# Altium integrated library Silicon Labs Isolation and Power.IntLib: 421 symbols (part 17 of 19)
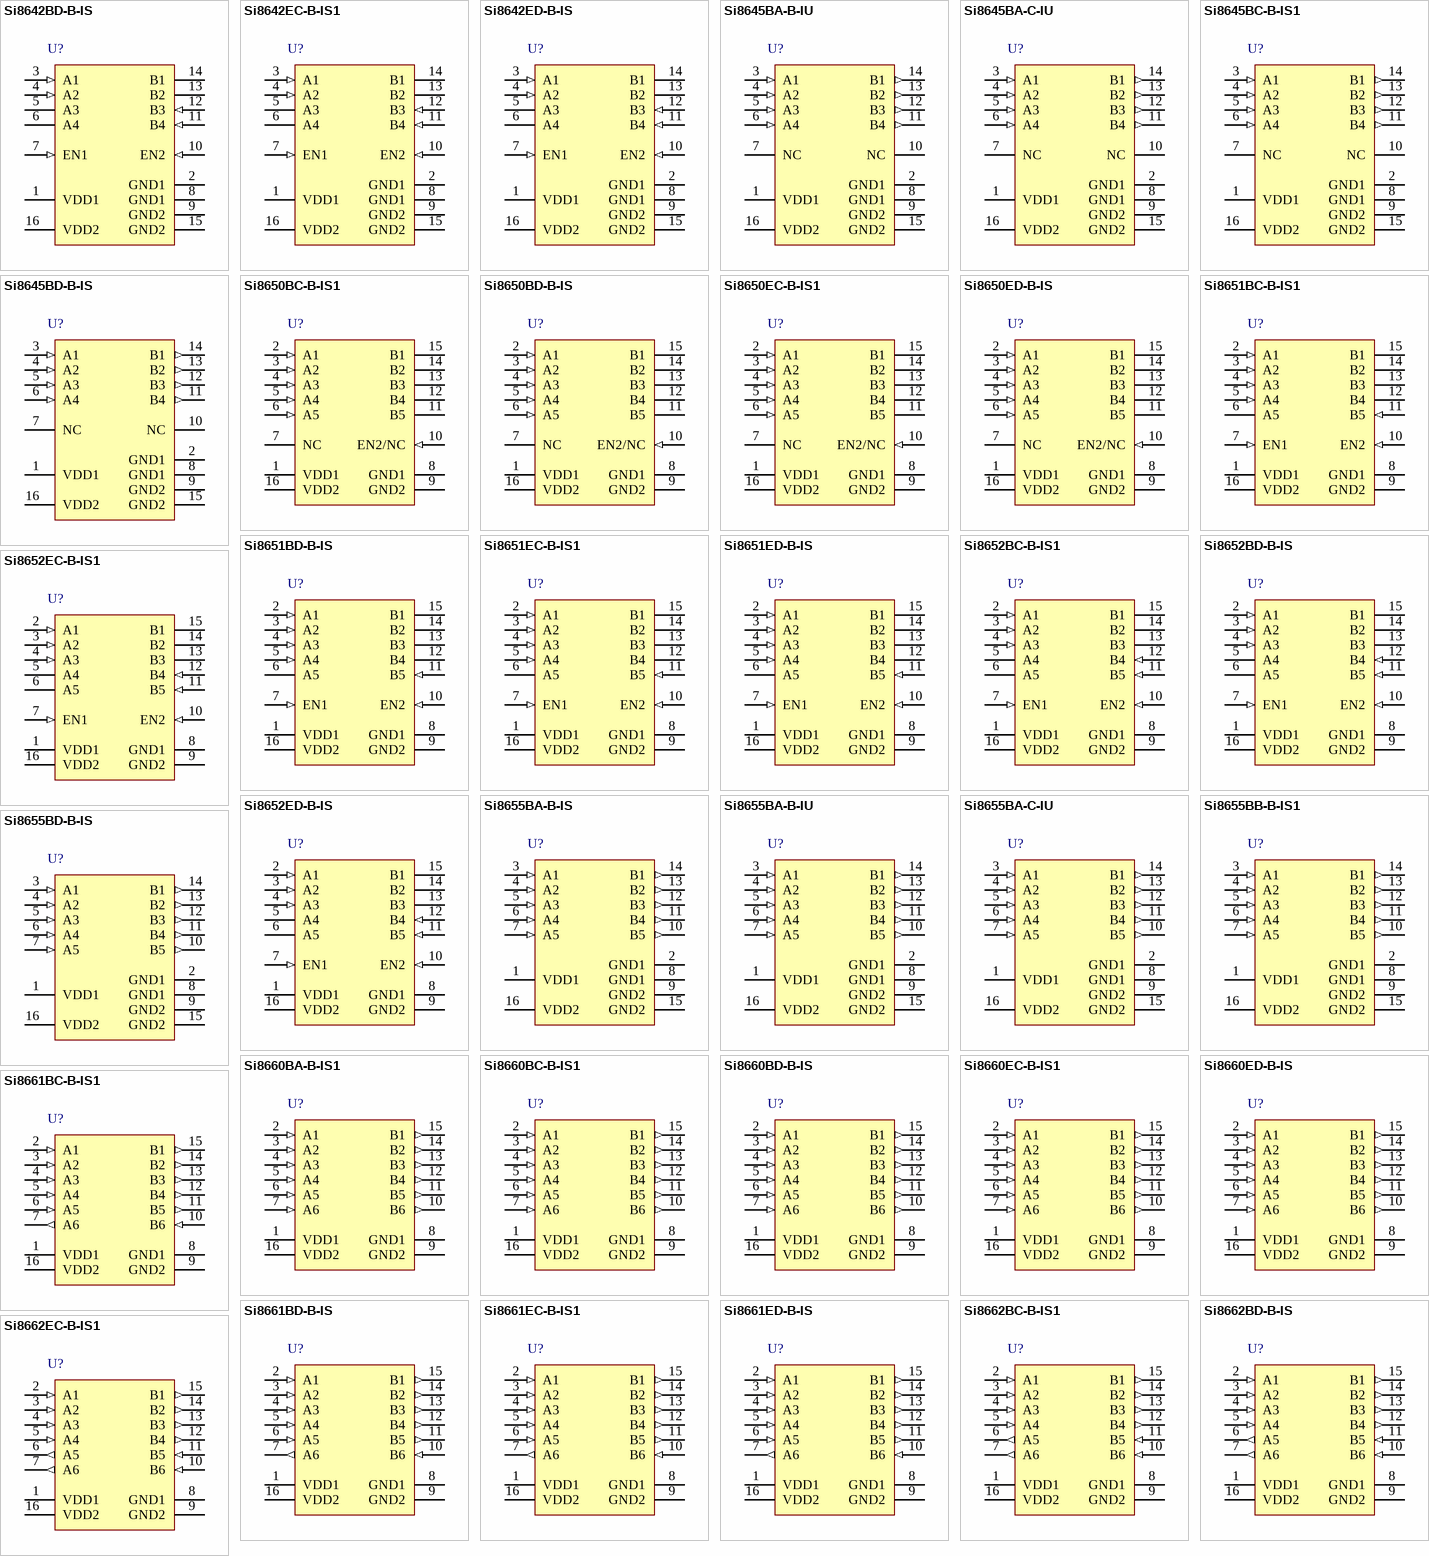
[diagram p30: symbols Si8642BD-B-IS to Si8662EC-B-IS1]

## Si8650BD-B-IS
designator U?
Low Power Five-Channel Digital Isolator, 150 Mbps, 5 kVRMS Isolation Rating, -40 to 125 degC, 16-pin SOIC; Manufacturer: Silicon Labs; PartNumber: Si8650BD-B-IS; 10kV surge: FALSE; Channel Type: Unidirectional; Enable Control: TRUE; Isolation Rating (kV): 5; Maximum Data Rate (Mbps): 150; Maximum Propagation Delay (ns): 13; Sub-Family: Isolators; DatasheetVersion: Rev. 1.6; PackageReference: SOIC-16-WB; PackageDescription: 16-Pin Wide Body Plastic Small Outline, Body 10.3 x 7.5 mm, Pitch 1.27 mm; Supplier 1: Digi-Key; Supplier Part Number 1: 336-2100-5-ND; Supplier 2: Mouser; Supplier Part Number 2: 634-SI8650BD-B-IS; AEC-Q100: FALSE; Mounting Technology: Surface Mount; Code_JEDEC: MS-013; ComponentLink1Description: Manufacturer URL; ComponentLink1URL: http://www.silabs.com/; ComponentLink2Description: Datasheet; ComponentLink2URL: http://www.silabs.com/Support%20Documents/TechnicalDocs/Si865x.pdf; ComponentLink3Description: Package Specification; ComponentLink3URL: https://www.silabs.com/Support%20Documents/TechnicalDocs/Si823x.pdf
footprint SLAB-SOIC-16-WB_N (SOIC, 16-Leads, Body 10.3x7.5mm, Pitch 1.27mm, IPC Medium Density)
footprint SLAB-SOIC-16-WB_L (SOIC, 16-Leads, Body 10.3x7.5mm, Pitch 1.27mm, IPC High Density)
footprint SLAB-SOIC-16-WB_M (SOIC, 16-Leads, Body 10.3x7.5mm, Pitch 1.27mm, IPC Low Density)
pins: 1 VDD1 (power) "Side 1 power supply.", 2 A1 (in) "Side 1 digital input.", 3 A2 (in) "Side 1 digital input.", 4 A3 (in) "Side 1 digital input.", 5 A4 (in) "Side 1 digital input.", 6 A5 (in) "Side 1 digital input.", 7 NC "No connection.", 8 GND1 (power) "Side 1 ground.", 9 GND2 (power) "Side 2 ground.", 10 EN2/NC (in) "Side 2 active high enable.No connection.", 11 B5 (hiz) "Side 2 digital output.", 12 B4 (hiz) "Side 2 digital  output.", 13 B3 (hiz) "Side 2 digital output.", 14 B2 (hiz) "Side 2 digital output.", 15 B1 (hiz) "Side 2 digital output.", 16 VDD2 (power) "Side 2 power supply."

## Si8650EC-B-IS1
designator U?
Low Power Five-Channel Digital Isolator, 150 Mbps, 3.75 kVRMS Isolation Rating, -40 to 125 degC, 16-pin SOIC; Manufacturer: Silicon Labs; PartNumber: Si8650EC-B-IS1; 10kV surge: FALSE; Channel Type: Unidirectional; Enable Control: TRUE; Isolation Rating (kV): 3.75; Maximum Data Rate (Mbps): 150; Maximum Propagation Delay (ns): 13; Sub-Family: Isolators; DatasheetVersion: Rev. 1.6; PackageReference: SOIC-16-NB; PackageDescription: 16-Pin Small-Outline Integrated Circuit, Body 9.9 x 3.9 mm, Pitch 1.27 mm; Supplier 1: Digi-Key; Supplier Part Number 1: 336-2101-5-ND; Supplier 2: Mouser; Supplier Part Number 2: 634-SI8650EC-B-IS1; AEC-Q100: FALSE; Mounting Technology: Surface Mount; Code_JEDEC: MS-012; Code_IPC: J-STD-020; ComponentLink1Description: Manufacturer URL; ComponentLink1URL: http://www.silabs.com/; ComponentLink2Description: Datasheet; ComponentLink2URL: http://www.silabs.com/Support%20Documents/TechnicalDocs/Si865x.pdf; ComponentLink3Description: Package Specification; ComponentLink3URL: http://www.silabs.com/Support%20Documents/TechnicalDocs/si2401.pdf
footprint SLAB-SOIC-16-NB_N (SOIC, 16-Leads, Body 9.9x3.9mm, Pitch 1.27mm, IPC Medium Density)
footprint SLAB-SOIC-16-NB_L (SOIC, 16-Leads, Body 9.9x3.9mm, Pitch 1.27mm, IPC High Density)
footprint SLAB-SOIC-16-NB_M (SOIC, 16-Leads, Body 9.9x3.9mm, Pitch 1.27mm, IPC Low Density)
pins: 1 VDD1 (power) "Side 1 power supply.", 2 A1 (in) "Side 1 digital input.", 3 A2 (in) "Side 1 digital input.", 4 A3 (in) "Side 1 digital input.", 5 A4 (in) "Side 1 digital input.", 6 A5 (in) "Side 1 digital input.", 7 NC "No connection.", 8 GND1 (power) "Side 1 ground.", 9 GND2 (power) "Side 2 ground.", 10 EN2/NC (in) "Side 2 active high enable.No connection.", 11 B5 (hiz) "Side 2 digital output.", 12 B4 (hiz) "Side 2 digital  output.", 13 B3 (hiz) "Side 2 digital output.", 14 B2 (hiz) "Side 2 digital output.", 15 B1 (hiz) "Side 2 digital output.", 16 VDD2 (power) "Side 2 power supply."

## Si8650ED-B-IS
designator U?
Low Power Five-Channel Digital Isolator, 150 Mbps, 5 kVRMS Isolation Rating, -40 to 125 degC, 16-pin SOIC; Manufacturer: Silicon Labs; PartNumber: Si8650ED-B-IS; 10kV surge: FALSE; Channel Type: Unidirectional; Enable Control: TRUE; Isolation Rating (kV): 5; Maximum Data Rate (Mbps): 150; Maximum Propagation Delay (ns): 13; Sub-Family: Isolators; DatasheetVersion: Rev. 1.6; PackageReference: SOIC-16-WB; PackageDescription: 16-Pin Wide Body Plastic Small Outline, Body 10.3 x 7.5 mm, Pitch 1.27 mm; Supplier 1: Digi-Key; Supplier Part Number 1: 336-2102-5-ND; Supplier 2: Mouser; Supplier Part Number 2: 634-SI8650ED-B-IS; AEC-Q100: FALSE; Mounting Technology: Surface Mount; Code_JEDEC: MS-013; ComponentLink1Description: Manufacturer URL; ComponentLink1URL: http://www.silabs.com/; ComponentLink2Description: Datasheet; ComponentLink2URL: http://www.silabs.com/Support%20Documents/TechnicalDocs/Si865x.pdf; ComponentLink3Description: Package Specification; ComponentLink3URL: https://www.silabs.com/Support%20Documents/TechnicalDocs/Si823x.pdf
footprint SLAB-SOIC-16-WB_N (SOIC, 16-Leads, Body 10.3x7.5mm, Pitch 1.27mm, IPC Medium Density)
footprint SLAB-SOIC-16-WB_L (SOIC, 16-Leads, Body 10.3x7.5mm, Pitch 1.27mm, IPC High Density)
footprint SLAB-SOIC-16-WB_M (SOIC, 16-Leads, Body 10.3x7.5mm, Pitch 1.27mm, IPC Low Density)
pins: 1 VDD1 (power) "Side 1 power supply.", 2 A1 (in) "Side 1 digital input.", 3 A2 (in) "Side 1 digital input.", 4 A3 (in) "Side 1 digital input.", 5 A4 (in) "Side 1 digital input.", 6 A5 (in) "Side 1 digital input.", 7 NC "No connection.", 8 GND1 (power) "Side 1 ground.", 9 GND2 (power) "Side 2 ground.", 10 EN2/NC (in) "Side 2 active high enable.No connection.", 11 B5 (hiz) "Side 2 digital output.", 12 B4 (hiz) "Side 2 digital  output.", 13 B3 (hiz) "Side 2 digital output.", 14 B2 (hiz) "Side 2 digital output.", 15 B1 (hiz) "Side 2 digital output.", 16 VDD2 (power) "Side 2 power supply."

## Si8651BC-B-IS1
designator U?
Low Power Five-Channel Digital Isolator, 150 Mbps, 3.75 kVRMS Isolation Rating, -40 to 125 degC, 16-pin SOIC; Manufacturer: Silicon Labs; PartNumber: Si8651BC-B-IS1; 10kV surge: FALSE; Channel Type: Unidirectional; Enable Control: TRUE; Isolation Rating (kV): 3.75; Maximum Data Rate (Mbps): 150; Maximum Propagation Delay (ns): 13; Sub-Family: Isolators; DatasheetVersion: Rev. 1.6; PackageReference: SOIC-16-NB; PackageDescription: 16-Pin Small-Outline Integrated Circuit, Body 9.9 x 3.9 mm, Pitch 1.27 mm; Supplier 1: Digi-Key; Supplier Part Number 1: 336-2103-5-ND; Supplier 2: Mouser; Supplier Part Number 2: 634-SI8651BC-B-IS1; AEC-Q100: FALSE; Mounting Technology: Surface Mount; Code_JEDEC: MS-012; Code_IPC: J-STD-020; ComponentLink1Description: Manufacturer URL; ComponentLink1URL: http://www.silabs.com/; ComponentLink2Description: Datasheet; ComponentLink2URL: http://www.silabs.com/Support%20Documents/TechnicalDocs/Si865x.pdf; ComponentLink3Description: Package Specification; ComponentLink3URL: http://www.silabs.com/Support%20Documents/TechnicalDocs/si2401.pdf
footprint SLAB-SOIC-16-NB_N (SOIC, 16-Leads, Body 9.9x3.9mm, Pitch 1.27mm, IPC Medium Density)
footprint SLAB-SOIC-16-NB_L (SOIC, 16-Leads, Body 9.9x3.9mm, Pitch 1.27mm, IPC High Density)
footprint SLAB-SOIC-16-NB_M (SOIC, 16-Leads, Body 9.9x3.9mm, Pitch 1.27mm, IPC Low Density)
pins: 1 VDD1 (power) "Side 1 power supply.", 2 A1 (in) "Side 1 digital input.", 3 A2 (in) "Side 1 digital input.", 4 A3 (in) "Side 1 digital input.", 5 A4 (in) "Side 1 digital input", 6 A5 (hiz) "Side 1 digital output.", 7 EN1 (in) "Side 1 active high enable.", 8 GND1 (power) "Side 1 ground.", 9 GND2 (power) "Side 2 ground.", 10 EN2 (in) "Side 2 active high enable.", 11 B5 (in) "Side 2 digital input", 12 B4 (hiz) "Side 2 digital output.", 13 B3 (hiz) "Side 2 digital output.", 14 B2 (hiz) "Side 2 digital output.", 15 B1 (hiz) "Side 2 digital output.", 16 VDD2 (power) "Side 2 power supply."

## Si8651BD-B-IS
designator U?
Low Power Five-Channel Digital Isolator, 150 Mbps, 5 kVRMS Isolation Rating, -40 to 125 degC, 16-pin SOIC; Manufacturer: Silicon Labs; PartNumber: Si8651BD-B-IS; 10kV surge: FALSE; Channel Type: Unidirectional; Enable Control: TRUE; Isolation Rating (kV): 5; Maximum Data Rate (Mbps): 150; Maximum Propagation Delay (ns): 13; Sub-Family: Isolators; DatasheetVersion: Rev. 1.6; PackageReference: SOIC-16-WB; PackageDescription: 16-Pin Wide Body Plastic Small Outline, Body 10.3 x 7.5 mm, Pitch 1.27 mm; Supplier 1: Digi-Key; Supplier Part Number 1: 336-2104-5-ND; Supplier 2: Mouser; Supplier Part Number 2: 634-SI8651BD-B-IS; AEC-Q100: FALSE; Mounting Technology: Surface Mount; Code_JEDEC: MS-013; ComponentLink1Description: Manufacturer URL; ComponentLink1URL: http://www.silabs.com/; ComponentLink2Description: Datasheet; ComponentLink2URL: http://www.silabs.com/Support%20Documents/TechnicalDocs/Si865x.pdf; ComponentLink3Description: Package Specification; ComponentLink3URL: https://www.silabs.com/Support%20Documents/TechnicalDocs/Si823x.pdf
footprint SLAB-SOIC-16-WB_N (SOIC, 16-Leads, Body 10.3x7.5mm, Pitch 1.27mm, IPC Medium Density)
footprint SLAB-SOIC-16-WB_L (SOIC, 16-Leads, Body 10.3x7.5mm, Pitch 1.27mm, IPC High Density)
footprint SLAB-SOIC-16-WB_M (SOIC, 16-Leads, Body 10.3x7.5mm, Pitch 1.27mm, IPC Low Density)
pins: 1 VDD1 (power) "Side 1 power supply.", 2 A1 (in) "Side 1 digital input.", 3 A2 (in) "Side 1 digital input.", 4 A3 (in) "Side 1 digital input.", 5 A4 (in) "Side 1 digital input", 6 A5 (hiz) "Side 1 digital output.", 7 EN1 (in) "Side 1 active high enable.", 8 GND1 (power) "Side 1 ground.", 9 GND2 (power) "Side 2 ground.", 10 EN2 (in) "Side 2 active high enable.", 11 B5 (in) "Side 2 digital input", 12 B4 (hiz) "Side 2 digital output.", 13 B3 (hiz) "Side 2 digital output.", 14 B2 (hiz) "Side 2 digital output.", 15 B1 (hiz) "Side 2 digital output.", 16 VDD2 (power) "Side 2 power supply."

## Si8651EC-B-IS1
designator U?
Low Power Five-Channel Digital Isolator, 150 Mbps, 3.75 kVRMS Isolation Rating, -40 to 125 degC, 16-pin SOIC; Manufacturer: Silicon Labs; PartNumber: Si8651EC-B-IS1; 10kV surge: FALSE; Channel Type: Unidirectional; Enable Control: TRUE; Isolation Rating (kV): 3.75; Maximum Data Rate (Mbps): 150; Maximum Propagation Delay (ns): 13; Sub-Family: Isolators; DatasheetVersion: Rev. 1.6; PackageReference: SOIC-16-NB; PackageDescription: 16-Pin Small-Outline Integrated Circuit, Body 9.9 x 3.9 mm, Pitch 1.27 mm; Supplier 1: Digi-Key; Supplier Part Number 1: 336-2105-5-ND; Supplier 2: Mouser; Supplier Part Number 2: 634-SI8651EC-B-IS1; AEC-Q100: FALSE; Mounting Technology: Surface Mount; Code_JEDEC: MS-012; Code_IPC: J-STD-020; ComponentLink1Description: Manufacturer URL; ComponentLink1URL: http://www.silabs.com/; ComponentLink2Description: Datasheet; ComponentLink2URL: http://www.silabs.com/Support%20Documents/TechnicalDocs/Si865x.pdf; ComponentLink3Description: Package Specification; ComponentLink3URL: http://www.silabs.com/Support%20Documents/TechnicalDocs/si2401.pdf
footprint SLAB-SOIC-16-NB_N (SOIC, 16-Leads, Body 9.9x3.9mm, Pitch 1.27mm, IPC Medium Density)
footprint SLAB-SOIC-16-NB_L (SOIC, 16-Leads, Body 9.9x3.9mm, Pitch 1.27mm, IPC High Density)
footprint SLAB-SOIC-16-NB_M (SOIC, 16-Leads, Body 9.9x3.9mm, Pitch 1.27mm, IPC Low Density)
pins: 1 VDD1 (power) "Side 1 power supply.", 2 A1 (in) "Side 1 digital input.", 3 A2 (in) "Side 1 digital input.", 4 A3 (in) "Side 1 digital input.", 5 A4 (in) "Side 1 digital input", 6 A5 (hiz) "Side 1 digital output.", 7 EN1 (in) "Side 1 active high enable.", 8 GND1 (power) "Side 1 ground.", 9 GND2 (power) "Side 2 ground.", 10 EN2 (in) "Side 2 active high enable.", 11 B5 (in) "Side 2 digital input", 12 B4 (hiz) "Side 2 digital output.", 13 B3 (hiz) "Side 2 digital output.", 14 B2 (hiz) "Side 2 digital output.", 15 B1 (hiz) "Side 2 digital output.", 16 VDD2 (power) "Side 2 power supply."

## Si8651ED-B-IS
designator U?
Low Power Five-Channel Digital Isolator, 150 Mbps, 5 kVRMS Isolation Rating, -40 to 125 degC, 16-pin SOIC; Manufacturer: Silicon Labs; PartNumber: Si8651ED-B-IS; 10kV surge: FALSE; Channel Type: Unidirectional; Enable Control: TRUE; Isolation Rating (kV): 5; Maximum Data Rate (Mbps): 150; Maximum Propagation Delay (ns): 13; Sub-Family: Isolators; DatasheetVersion: Rev. 1.6; PackageReference: SOIC-16-WB; PackageDescription: 16-Pin Wide Body Plastic Small Outline, Body 10.3 x 7.5 mm, Pitch 1.27 mm; Supplier 1: Digi-Key; Supplier Part Number 1: 336-2106-5-ND; Supplier 2: Mouser; Supplier Part Number 2: 634-SI8651ED-B-IS; AEC-Q100: FALSE; Mounting Technology: Surface Mount; Code_JEDEC: MS-013; ComponentLink1Description: Manufacturer URL; ComponentLink1URL: http://www.silabs.com/; ComponentLink2Description: Datasheet; ComponentLink2URL: http://www.silabs.com/Support%20Documents/TechnicalDocs/Si865x.pdf; ComponentLink3Description: Package Specification; ComponentLink3URL: https://www.silabs.com/Support%20Documents/TechnicalDocs/Si823x.pdf
footprint SLAB-SOIC-16-WB_N (SOIC, 16-Leads, Body 10.3x7.5mm, Pitch 1.27mm, IPC Medium Density)
footprint SLAB-SOIC-16-WB_L (SOIC, 16-Leads, Body 10.3x7.5mm, Pitch 1.27mm, IPC High Density)
footprint SLAB-SOIC-16-WB_M (SOIC, 16-Leads, Body 10.3x7.5mm, Pitch 1.27mm, IPC Low Density)
pins: 1 VDD1 (power) "Side 1 power supply.", 2 A1 (in) "Side 1 digital input.", 3 A2 (in) "Side 1 digital input.", 4 A3 (in) "Side 1 digital input.", 5 A4 (in) "Side 1 digital input", 6 A5 (hiz) "Side 1 digital output.", 7 EN1 (in) "Side 1 active high enable.", 8 GND1 (power) "Side 1 ground.", 9 GND2 (power) "Side 2 ground.", 10 EN2 (in) "Side 2 active high enable.", 11 B5 (in) "Side 2 digital input", 12 B4 (hiz) "Side 2 digital output.", 13 B3 (hiz) "Side 2 digital output.", 14 B2 (hiz) "Side 2 digital output.", 15 B1 (hiz) "Side 2 digital output.", 16 VDD2 (power) "Side 2 power supply."

## Si8652BC-B-IS1
designator U?
Low Power Five-Channel Digital Isolator, 150 Mbps, 3.75 kVRMS Isolation Rating, -40 to 125 degC, 16-pin SOIC; Manufacturer: Silicon Labs; PartNumber: Si8652BC-B-IS1; 10kV surge: FALSE; Channel Type: Unidirectional; Enable Control: TRUE; Isolation Rating (kV): 3.75; Maximum Data Rate (Mbps): 150; Maximum Propagation Delay (ns): 13; Sub-Family: Isolators; DatasheetVersion: Rev. 1.6; PackageReference: SOIC-16-NB; PackageDescription: 16-Pin Small-Outline Integrated Circuit, Body 9.9 x 3.9 mm, Pitch 1.27 mm; Supplier 1: Digi-Key; Supplier Part Number 1: 336-2107-5-ND; Supplier 2: Mouser; Supplier Part Number 2: 634-SI8652BC-B-IS1; AEC-Q100: FALSE; Mounting Technology: Surface Mount; Code_JEDEC: MS-012; Code_IPC: J-STD-020; ComponentLink1Description: Manufacturer URL; ComponentLink1URL: http://www.silabs.com/; ComponentLink2Description: Datasheet; ComponentLink2URL: http://www.silabs.com/Support%20Documents/TechnicalDocs/Si865x.pdf; ComponentLink3Description: Package Specification; ComponentLink3URL: http://www.silabs.com/Support%20Documents/TechnicalDocs/si2401.pdf
footprint SLAB-SOIC-16-NB_N (SOIC, 16-Leads, Body 9.9x3.9mm, Pitch 1.27mm, IPC Medium Density)
footprint SLAB-SOIC-16-NB_L (SOIC, 16-Leads, Body 9.9x3.9mm, Pitch 1.27mm, IPC High Density)
footprint SLAB-SOIC-16-NB_M (SOIC, 16-Leads, Body 9.9x3.9mm, Pitch 1.27mm, IPC Low Density)
pins: 1 VDD1 (power) "Side 1 power supply.", 2 A1 (in) "Side 1 digital input.", 3 A2 (in) "Side 1 digital input.", 4 A3 (in) "Side 1 digital input.", 5 A4 (hiz) "Side 1 digital output.", 6 A5 (hiz) "Side 1 digital output.", 7 EN1 (in) "Side 1 active high enable.", 8 GND1 (power) "Side 1 ground.", 9 GND2 (power) "Side 2 ground.", 10 EN2 (in) "Side 2 active high enable.", 11 B5 (in) "Side 2 digital input", 12 B4 (in) "Side 2 digital input", 13 B3 (hiz) "Side 2 digital output.", 14 B2 (hiz) "Side 2 digital output.", 15 B1 (hiz) "Side 2 digital output.", 16 VDD2 (power) "Side 2 power supply."

## Si8652BD-B-IS
designator U?
Low Power Five-Channel Digital Isolator, 150 Mbps, 5 kVRMS Isolation Rating, -40 to 125 degC, 16-pin SOIC; Manufacturer: Silicon Labs; PartNumber: Si8652BD-B-IS; 10kV surge: FALSE; Channel Type: Unidirectional; Enable Control: TRUE; Isolation Rating (kV): 5; Maximum Data Rate (Mbps): 150; Maximum Propagation Delay (ns): 13; Sub-Family: Isolators; DatasheetVersion: Rev. 1.6; PackageReference: SOIC-16-WB; PackageDescription: 16-Pin Wide Body Plastic Small Outline, Body 10.3 x 7.5 mm, Pitch 1.27 mm; Supplier 1: Digi-Key; Supplier Part Number 1: 336-2108-5-ND; Supplier 2: Mouser; Supplier Part Number 2: 634-SI8652BD-B-IS; AEC-Q100: FALSE; Mounting Technology: Surface Mount; Code_JEDEC: MS-013; ComponentLink1Description: Manufacturer URL; ComponentLink1URL: http://www.silabs.com/; ComponentLink2Description: Datasheet; ComponentLink2URL: http://www.silabs.com/Support%20Documents/TechnicalDocs/Si865x.pdf; ComponentLink3Description: Package Specification; ComponentLink3URL: https://www.silabs.com/Support%20Documents/TechnicalDocs/Si823x.pdf
footprint SLAB-SOIC-16-WB_N (SOIC, 16-Leads, Body 10.3x7.5mm, Pitch 1.27mm, IPC Medium Density)
footprint SLAB-SOIC-16-WB_L (SOIC, 16-Leads, Body 10.3x7.5mm, Pitch 1.27mm, IPC High Density)
footprint SLAB-SOIC-16-WB_M (SOIC, 16-Leads, Body 10.3x7.5mm, Pitch 1.27mm, IPC Low Density)
pins: 1 VDD1 (power) "Side 1 power supply.", 2 A1 (in) "Side 1 digital input.", 3 A2 (in) "Side 1 digital input.", 4 A3 (in) "Side 1 digital input.", 5 A4 (hiz) "Side 1 digital output.", 6 A5 (hiz) "Side 1 digital output.", 7 EN1 (in) "Side 1 active high enable.", 8 GND1 (power) "Side 1 ground.", 9 GND2 (power) "Side 2 ground.", 10 EN2 (in) "Side 2 active high enable.", 11 B5 (in) "Side 2 digital input.", 12 B4 (in) "Side 2 digital input.", 13 B3 (hiz) "Side 2 digital output.", 14 B2 (hiz) "Side 2 digital output.", 15 B1 (hiz) "Side 2 digital output.", 16 VDD2 (power) "Side 2 power supply."

## Si8652EC-B-IS1
designator U?
Low Power Five-Channel Digital Isolator, 150 Mbps, 3.75 kVRMS Isolation Rating, -40 to 125 degC, 16-pin SOIC; Manufacturer: Silicon Labs; PartNumber: Si8652EC-B-IS1; 10kV surge: FALSE; Channel Type: Unidirectional; Enable Control: TRUE; Isolation Rating (kV): 3.75; Maximum Data Rate (Mbps): 150; Maximum Propagation Delay (ns): 13; Sub-Family: Isolators; DatasheetVersion: Rev. 1.6; PackageReference: SOIC-16-NB; PackageDescription: 16-Pin Small-Outline Integrated Circuit, Body 9.9 x 3.9 mm, Pitch 1.27 mm; Supplier 1: Digi-Key; Supplier Part Number 1: 336-2109-5-ND; Supplier 2: Mouser; Supplier Part Number 2: 634-SI8652EC-B-IS1; AEC-Q100: FALSE; Mounting Technology: Surface Mount; Code_JEDEC: MS-012; Code_IPC: J-STD-020; ComponentLink1Description: Manufacturer URL; ComponentLink1URL: http://www.silabs.com/; ComponentLink2Description: Datasheet; ComponentLink2URL: http://www.silabs.com/Support%20Documents/TechnicalDocs/Si865x.pdf; ComponentLink3Description: Package Specification; ComponentLink3URL: http://www.silabs.com/Support%20Documents/TechnicalDocs/si2401.pdf
footprint SLAB-SOIC-16-NB_N (SOIC, 16-Leads, Body 9.9x3.9mm, Pitch 1.27mm, IPC Medium Density)
footprint SLAB-SOIC-16-NB_L (SOIC, 16-Leads, Body 9.9x3.9mm, Pitch 1.27mm, IPC High Density)
footprint SLAB-SOIC-16-NB_M (SOIC, 16-Leads, Body 9.9x3.9mm, Pitch 1.27mm, IPC Low Density)
pins: 1 VDD1 (power) "Side 1 power supply.", 2 A1 (in) "Side 1 digital input.", 3 A2 (in) "Side 1 digital input.", 4 A3 (in) "Side 1 digital input.", 5 A4 (hiz) "Side 1 digital output.", 6 A5 (hiz) "Side 1 digital output.", 7 EN1 (in) "Side 1 active high enable.", 8 GND1 (power) "Side 1 ground.", 9 GND2 (power) "Side 2 ground.", 10 EN2 (in) "Side 2 active high enable.", 11 B5 (in) "Side 2 digital input.", 12 B4 (in) "Side 2 digital input.", 13 B3 (hiz) "Side 2 digital output.", 14 B2 (hiz) "Side 2 digital output.", 15 B1 (hiz) "Side 2 digital output.", 16 VDD2 (power) "Side 2 power supply."

## Si8652ED-B-IS
designator U?
Low Power Five-Channel Digital Isolator, 150 Mbps, 5 kVRMS Isolation Rating, -40 to 125 degC, 16-pin SOIC; Manufacturer: Silicon Labs; PartNumber: Si8652ED-B-IS; 10kV surge: FALSE; Channel Type: Unidirectional; Enable Control: TRUE; Isolation Rating (kV): 5; Maximum Data Rate (Mbps): 150; Maximum Propagation Delay (ns): 13; Sub-Family: Isolators; DatasheetVersion: Rev. 1.6; PackageReference: SOIC-16-WB; PackageDescription: 16-Pin Wide Body Plastic Small Outline, Body 10.3 x 7.5 mm, Pitch 1.27 mm; Supplier 1: Digi-Key; Supplier Part Number 1: 336-2110-5-ND; Supplier 2: Mouser; Supplier Part Number 2: 634-SI8652ED-B-IS; AEC-Q100: FALSE; Mounting Technology: Surface Mount; Code_JEDEC: MS-013; ComponentLink1Description: Manufacturer URL; ComponentLink1URL: http://www.silabs.com/; ComponentLink2Description: Datasheet; ComponentLink2URL: http://www.silabs.com/Support%20Documents/TechnicalDocs/Si865x.pdf; ComponentLink3Description: Package Specification; ComponentLink3URL: https://www.silabs.com/Support%20Documents/TechnicalDocs/Si823x.pdf
footprint SLAB-SOIC-16-WB_N (SOIC, 16-Leads, Body 10.3x7.5mm, Pitch 1.27mm, IPC Medium Density)
footprint SLAB-SOIC-16-WB_L (SOIC, 16-Leads, Body 10.3x7.5mm, Pitch 1.27mm, IPC High Density)
footprint SLAB-SOIC-16-WB_M (SOIC, 16-Leads, Body 10.3x7.5mm, Pitch 1.27mm, IPC Low Density)
pins: 1 VDD1 (power) "Side 1 power supply.", 2 A1 (in) "Side 1 digital input.", 3 A2 (in) "Side 1 digital input.", 4 A3 (in) "Side 1 digital input.", 5 A4 (hiz) "Side 1 digital output.", 6 A5 (hiz) "Side 1 digital output.", 7 EN1 (in) "Side 1 active high enable.", 8 GND1 (power) "Side 1 ground.", 9 GND2 (power) "Side 2 ground.", 10 EN2 (in) "Side 2 active high enable.", 11 B5 (in) "Side 2 digital input.", 12 B4 (in) "Side 2 digital input.", 13 B3 (hiz) "Side 2 digital output.", 14 B2 (hiz) "Side 2 digital output.", 15 B1 (hiz) "Side 2 digital output.", 16 VDD2 (power) "Side 2 power supply."

## Si8655BA-B-IS
designator U?
Low Power Five-Channel Digital Isolator, 150 Mbps, 1 kVRMS Isolation Rating, -40 to 125 degC, 16-pin SOIC; Manufacturer: Silicon Labs; PartNumber: Si8655BA-B-IS; 10kV surge: FALSE; Channel Type: Unidirectional; Isolation Rating (kV): 1; Maximum Data Rate (Mbps): 150; Maximum Propagation Delay (ns): 13; Sub-Family: Isolators; DatasheetVersion: Rev. 1.6; PackageReference: SOIC-16-WB; PackageDescription: 16-Pin Wide Body Plastic Small Outline, Body 10.3 x 7.5 mm, Pitch 1.27 mm; Supplier 1: Digi-Key; Supplier Part Number 1: 336-2112-5-ND; Supplier 2: Mouser; Supplier Part Number 2: 634-SI8655BA-B-IS; AEC-Q100: FALSE; Enable Control: FALSE; Mounting Technology: Surface Mount; Code_JEDEC: MS-013; ComponentLink1Description: Manufacturer URL; ComponentLink1URL: http://www.silabs.com/; ComponentLink2Description: Datasheet; ComponentLink2URL: http://www.silabs.com/Support%20Documents/TechnicalDocs/Si865x.pdf; ComponentLink3Description: Package Specification; ComponentLink3URL: https://www.silabs.com/Support%20Documents/TechnicalDocs/Si823x.pdf
footprint SLAB-SOIC-16-WB_N (SOIC, 16-Leads, Body 10.3x7.5mm, Pitch 1.27mm, IPC Medium Density)
footprint SLAB-SOIC-16-WB_L (SOIC, 16-Leads, Body 10.3x7.5mm, Pitch 1.27mm, IPC High Density)
footprint SLAB-SOIC-16-WB_M (SOIC, 16-Leads, Body 10.3x7.5mm, Pitch 1.27mm, IPC Low Density)
pins: 1 VDD1 (power) "Side 1 power supply", 2 GND1 (power) "Side 1 ground", 3 A1 (in) "Side 1 digital input", 4 A2 (in) "Side 1 digital input", 5 A3 (in) "Side 1 digital input", 6 A4 (in) "Side 1 digital input", 7 A5 (in) "Side 1 digital input", 8 GND1 (power) "Side 1 ground", 9 GND2 (power) "Side 2 ground", 10 B5 (out) "Side 2 digital output", 11 B4 (out) "Side 2 digital output", 12 B3 (out) "Side 2 digital output", 13 B2 (out) "Side 2 digital output", 14 B1 (out) "Side 2 digital output", 15 GND2 (power) "Side 2 ground", 16 VDD2 (power) "Side 2 power supply"

## Si8655BA-B-IU
designator U?
Low Power Five-Channel Digital Isolator, 150 Mbps, 1 kVRMS Isolation Rating, -40 to 125 degC, 16-pin SOP; Manufacturer: Silicon Labs; PartNumber: Si8655BA-B-IU; 10kV surge: FALSE; Channel Type: Unidirectional; Isolation Rating (kV): 1; Maximum Data Rate (Mbps): 150; Maximum Propagation Delay (ns): 13; Sub-Family: Isolators; DatasheetVersion: Rev. 1.6; PackageReference: QSOP-16; PackageDescription: 16-Pin Quarter-Size Small Outline Package, Body 4.89 x 3.9 mm, Pitch 0.635 mm; Supplier 1: Digi-Key; Supplier Part Number 1: 336-2113-5-ND; Supplier 2: Mouser; Supplier Part Number 2: 634-SI8655BA-B-IU; AEC-Q100: FALSE; Enable Control: FALSE; Mounting Technology: Surface Mount; Code_JEDEC: MO-137; Code_IPC: J-STD-020D; ComponentLink1Description: Manufacturer URL; ComponentLink1URL: http://www.silabs.com/; ComponentLink2Description: Datasheet; ComponentLink2URL: http://www.silabs.com/Support%20Documents/TechnicalDocs/Si865x.pdf; ComponentLink3Description: Package Specification; ComponentLink3URL: http://www.silabs.com/Support%20Documents/TechnicalDocs/Si864x.pdf
footprint SLAB-QSOP-16_N (SOP, 16-Leads, Body 4.9x3.9mm, Pitch 0.635mm, IPC Medium Density)
footprint SLAB-QSOP-16_L (SOP, 16-Leads, Body 4.9x3.9mm, Pitch 0.635mm, IPC High Density)
footprint SLAB-QSOP-16_M (SOP, 16-Leads, Body 4.9x3.9mm, Pitch 0.635mm, IPC Low Density)
pins: 1 VDD1 (power) "Side 1 power supply", 2 GND1 (power) "Side 1 ground", 3 A1 (in) "Side 1 digital input", 4 A2 (in) "Side 1 digital input", 5 A3 (in) "Side 1 digital input", 6 A4 (in) "Side 1 digital input", 7 A5 (in) "Side 1 digital input", 8 GND1 (power) "Side 1 ground", 9 GND2 (power) "Side 2 ground", 10 B5 (out) "Side 2 digital output", 11 B4 (out) "Side 2 digital output", 12 B3 (out) "Side 2 digital output", 13 B2 (out) "Side 2 digital output", 14 B1 (out) "Side 2 digital output", 15 GND2 (power) "Side 2 ground", 16 VDD2 (power) "Side 2 power supply"

## Si8655BA-C-IU
designator U?
Low Power Five-Channel Digital Isolator, 150 Mbps, 1 kVRMS Isolation Rating, -40 to 125 degC, 16-pin SOP; Manufacturer: Silicon Labs; PartNumber: Si8655BA-C-IU; Note: 0; 10kV surge: FALSE; Channel Type: Unidirectional; Isolation Rating (kV): 1; Maximum Data Rate (Mbps): 150; Maximum Propagation Delay (ns): 13; Sub-Family: Isolators; DatasheetVersion: Rev. 1.6; PackageReference: QSOP-16; PackageDescription: 16-Pin Quarter-Size Small Outline Package, Body 4.89 x 3.9 mm, Pitch 0.635 mm; AEC-Q100: FALSE; Enable Control: FALSE; Mounting Technology: Surface Mount; Code_JEDEC: MO-137; Code_IPC: J-STD-020D; ComponentLink1Description: Manufacturer URL; ComponentLink1URL: http://www.silabs.com/; ComponentLink2Description: Datasheet; ComponentLink2URL: http://www.silabs.com/Support%20Documents/TechnicalDocs/Si865x.pdf; ComponentLink3Description: Package Specification; ComponentLink3URL: http://www.silabs.com/Support%20Documents/TechnicalDocs/Si864x.pdf
footprint SLAB-QSOP-16_N (SOP, 16-Leads, Body 4.9x3.9mm, Pitch 0.635mm, IPC Medium Density)
footprint SLAB-QSOP-16_L (SOP, 16-Leads, Body 4.9x3.9mm, Pitch 0.635mm, IPC High Density)
footprint SLAB-QSOP-16_M (SOP, 16-Leads, Body 4.9x3.9mm, Pitch 0.635mm, IPC Low Density)
pins: 1 VDD1 (power) "Side 1 power supply", 2 GND1 (power) "Side 1 ground", 3 A1 (in) "Side 1 digital input", 4 A2 (in) "Side 1 digital input", 5 A3 (in) "Side 1 digital input", 6 A4 (in) "Side 1 digital input", 7 A5 (in) "Side 1 digital input", 8 GND1 (power) "Side 1 ground", 9 GND2 (power) "Side 2 ground", 10 B5 (out) "Side 2 digital output", 11 B4 (out) "Side 2 digital output", 12 B3 (out) "Side 2 digital output", 13 B2 (out) "Side 2 digital output", 14 B1 (out) "Side 2 digital output", 15 GND2 (power) "Side 2 ground", 16 VDD2 (power) "Side 2 power supply"

## Si8655BB-B-IS1
designator U?
Low Power Five-Channel Digital Isolator, 150 Mbps, 2.5 kVRMS Isolation Rating, -40 to 125 degC, 16-pin SOIC; Manufacturer: Silicon Labs; PartNumber: Si8655BB-B-IS1; Note: 0; 10kV surge: FALSE; Channel Type: Unidirectional; Isolation Rating (kV): 2.5; Maximum Data Rate (Mbps): 150; Maximum Propagation Delay (ns): 13; Sub-Family: Isolators; DatasheetVersion: Rev. 1.6; PackageReference: SOIC-16-NB; PackageDescription: 16-Pin Small-Outline Integrated Circuit, Body 9.9 x 3.9 mm, Pitch 1.27 mm; AEC-Q100: FALSE; Enable Control: FALSE; Mounting Technology: Surface Mount; Code_JEDEC: MS-012; Code_IPC: J-STD-020; ComponentLink1Description: Manufacturer URL; ComponentLink1URL: http://www.silabs.com/; ComponentLink2Description: Datasheet; ComponentLink2URL: http://www.silabs.com/Support%20Documents/TechnicalDocs/Si865x.pdf; ComponentLink3Description: Package Specification; ComponentLink3URL: http://www.silabs.com/Support%20Documents/TechnicalDocs/si2401.pdf
footprint SLAB-SOIC-16-NB_N (SOIC, 16-Leads, Body 9.9x3.9mm, Pitch 1.27mm, IPC Medium Density)
footprint SLAB-SOIC-16-NB_L (SOIC, 16-Leads, Body 9.9x3.9mm, Pitch 1.27mm, IPC High Density)
footprint SLAB-SOIC-16-NB_M (SOIC, 16-Leads, Body 9.9x3.9mm, Pitch 1.27mm, IPC Low Density)
pins: 1 VDD1 (power) "Side 1 power supply", 2 GND1 (power) "Side 1 ground", 3 A1 (in) "Side 1 digital input", 4 A2 (in) "Side 1 digital input", 5 A3 (in) "Side 1 digital input", 6 A4 (in) "Side 1 digital input", 7 A5 (in) "Side 1 digital input", 8 GND1 (power) "Side 1 ground", 9 GND2 (power) "Side 2 ground", 10 B5 (out) "Side 2 digital output", 11 B4 (out) "Side 2 digital output", 12 B3 (out) "Side 2 digital output", 13 B2 (out) "Side 2 digital output", 14 B1 (out) "Side 2 digital output", 15 GND2 (power) "Side 2 ground", 16 VDD2 (power) "Side 2 power supply"

## Si8655BD-B-IS
designator U?
Low Power Five-Channel Digital Isolator, 150 Mbps, 5 kVRMS Isolation Rating, -40 to 125 degC, 16-pin SOIC; Manufacturer: Silicon Labs; PartNumber: Si8655BD-B-IS; 10kV surge: FALSE; Channel Type: Unidirectional; Isolation Rating (kV): 5; Maximum Data Rate (Mbps): 150; Maximum Propagation Delay (ns): 13; Sub-Family: Isolators; DatasheetVersion: Rev. 1.6; PackageReference: SOIC-16-WB; PackageDescription: 16-Pin Wide Body Plastic Small Outline, Body 10.3 x 7.5 mm, Pitch 1.27 mm; Supplier 1: Digi-Key; Supplier Part Number 1: 336-2111-5-ND; Supplier 2: Mouser; Supplier Part Number 2: 634-SI8655BD-B-IS; AEC-Q100: FALSE; Enable Control: FALSE; Mounting Technology: Surface Mount; Code_JEDEC: MS-013; ComponentLink1Description: Manufacturer URL; ComponentLink1URL: http://www.silabs.com/; ComponentLink2Description: Datasheet; ComponentLink2URL: http://www.silabs.com/Support%20Documents/TechnicalDocs/Si865x.pdf; ComponentLink3Description: Package Specification; ComponentLink3URL: https://www.silabs.com/Support%20Documents/TechnicalDocs/Si823x.pdf
footprint SLAB-SOIC-16-WB_N (SOIC, 16-Leads, Body 10.3x7.5mm, Pitch 1.27mm, IPC Medium Density)
footprint SLAB-SOIC-16-WB_L (SOIC, 16-Leads, Body 10.3x7.5mm, Pitch 1.27mm, IPC High Density)
footprint SLAB-SOIC-16-WB_M (SOIC, 16-Leads, Body 10.3x7.5mm, Pitch 1.27mm, IPC Low Density)
pins: 1 VDD1 (power) "Side 1 power supply", 2 GND1 (power) "Side 1 ground", 3 A1 (in) "Side 1 digital input", 4 A2 (in) "Side 1 digital input", 5 A3 (in) "Side 1 digital input", 6 A4 (in) "Side 1 digital input", 7 A5 (in) "Side 1 digital input", 8 GND1 (power) "Side 1 ground", 9 GND2 (power) "Side 2 ground", 10 B5 (out) "Side 2 digital output", 11 B4 (out) "Side 2 digital output", 12 B3 (out) "Side 2 digital output", 13 B2 (out) "Side 2 digital output", 14 B1 (out) "Side 2 digital output", 15 GND2 (power) "Side 2 ground", 16 VDD2 (power) "Side 2 power supply"

## Si8660BA-B-IS1
designator U?
Low Power Six-Channel Digital Isolator, 150 Mbps, 3.75 kVRMS Isolation Rating, -40 to 125 degC, 16-pin SOIC; Manufacturer: Silicon Labs; PartNumber: Si8660BA-B-IS1; 10kV surge: FALSE; Channel Type: Unidirectional; Isolation Rating (kV): 3.75; Maximum Data Rate (Mbps): 150; Maximum Propagation Delay (ns): 13; Sub-Family: Isolators; DatasheetVersion: Rev. 1.4; PackageReference: SOIC-16-NB; PackageDescription: 16-Pin Small-Outline Integrated Circuit, Body 9.9 x 3.9 mm, Pitch 1.27 mm; Supplier 1: Digi-Key; Supplier Part Number 1: 336-2115-5-ND; Supplier 2: Mouser; Supplier Part Number 2: 634-SI8660BA-B-IS1; AEC-Q100: FALSE; Enable Control: FALSE; Mounting Technology: Surface Mount; Code_JEDEC: MS-012; Code_IPC: J-STD-020; ComponentLink1Description: Manufacturer URL; ComponentLink1URL: http://www.silabs.com/; ComponentLink2Description: Datasheet; ComponentLink2URL: http://www.silabs.com/Support%20Documents/TechnicalDocs/Si866x.pdf; ComponentLink3Description: Package Specification; ComponentLink3URL: http://www.silabs.com/Support%20Documents/TechnicalDocs/si2401.pdf
footprint SLAB-SOIC-16-NB_N (SOIC, 16-Leads, Body 9.9x3.9mm, Pitch 1.27mm, IPC Medium Density)
footprint SLAB-SOIC-16-NB_L (SOIC, 16-Leads, Body 9.9x3.9mm, Pitch 1.27mm, IPC High Density)
footprint SLAB-SOIC-16-NB_M (SOIC, 16-Leads, Body 9.9x3.9mm, Pitch 1.27mm, IPC Low Density)
pins: 1 VDD1 (power) "Side 1 power supply.", 2 A1 (in) "Side 1 digital input.", 3 A2 (in) "Side 1 digital input.", 4 A3 (in) "Side 1 digital input.", 5 A4 (in) "Side 1 digital input.", 6 A5 (in) "Side 1 digital input.", 7 A6 (in) "Side 1 digital input.", 8 GND1 (power) "Side 1 ground.", 9 GND2 (power) "Side 2 ground.", 10 B6 (out) "Side 2 digital output.", 11 B5 (out) "Side 2 digital output.", 12 B4 (out) "Side 2 digital output.", 13 B3 (out) "Side 2 digital output.", 14 B2 (out) "Side 2 digital output.", 15 B1 (out) "Side 2 digital output.", 16 VDD2 (power) "Side 2 power supply."

## Si8660BC-B-IS1
designator U?
Low Power Six-Channel Digital Isolator, 150 Mbps, 3.75 kVRMS Isolation Rating, -40 to 125 degC, 16-pin SOIC; Manufacturer: Silicon Labs; PartNumber: Si8660BC-B-IS1; 10kV surge: FALSE; Channel Type: Unidirectional; Isolation Rating (kV): 3.75; Maximum Data Rate (Mbps): 150; Maximum Propagation Delay (ns): 13; Sub-Family: Isolators; DatasheetVersion: Rev. 1.4; PackageReference: SOIC-16-NB; PackageDescription: 16-Pin Small-Outline Integrated Circuit, Body 9.9 x 3.9 mm, Pitch 1.27 mm; Supplier 1: Digi-Key; Supplier Part Number 1: 336-2114-5-ND; Supplier 2: Mouser; Supplier Part Number 2: 634-SI8660BC-B-IS1; AEC-Q100: FALSE; Enable Control: FALSE; Mounting Technology: Surface Mount; Code_JEDEC: MS-012; Code_IPC: J-STD-020; ComponentLink1Description: Manufacturer URL; ComponentLink1URL: http://www.silabs.com/; ComponentLink2Description: Datasheet; ComponentLink2URL: http://www.silabs.com/Support%20Documents/TechnicalDocs/Si866x.pdf; ComponentLink3Description: Package Specification; ComponentLink3URL: http://www.silabs.com/Support%20Documents/TechnicalDocs/si2401.pdf
footprint SLAB-SOIC-16-NB_N (SOIC, 16-Leads, Body 9.9x3.9mm, Pitch 1.27mm, IPC Medium Density)
footprint SLAB-SOIC-16-NB_L (SOIC, 16-Leads, Body 9.9x3.9mm, Pitch 1.27mm, IPC High Density)
footprint SLAB-SOIC-16-NB_M (SOIC, 16-Leads, Body 9.9x3.9mm, Pitch 1.27mm, IPC Low Density)
pins: 1 VDD1 (power) "Side 1 power supply.", 2 A1 (in) "Side 1 digital input.", 3 A2 (in) "Side 1 digital input.", 4 A3 (in) "Side 1 digital input.", 5 A4 (in) "Side 1 digital input.", 6 A5 (in) "Side 1 digital input.", 7 A6 (in) "Side 1 digital input.", 8 GND1 (power) "Side 1 ground.", 9 GND2 (power) "Side 2 ground.", 10 B6 (out) "Side 2 digital output.", 11 B5 (out) "Side 2 digital output.", 12 B4 (out) "Side 2 digital output.", 13 B3 (out) "Side 2 digital output.", 14 B2 (out) "Side 2 digital output.", 15 B1 (out) "Side 2 digital output.", 16 VDD2 (power) "Side 2 power supply."

## Si8660BD-B-IS
designator U?
Low Power Six-Channel Digital Isolator, 150 Mbps, 5 kVRMS Isolation Rating, -40 to 125 degC, 16-pin SOIC; Manufacturer: Silicon Labs; PartNumber: Si8660BD-B-IS; 10kV surge: FALSE; Channel Type: Unidirectional; Isolation Rating (kV): 5; Maximum Data Rate (Mbps): 150; Maximum Propagation Delay (ns): 13; Sub-Family: Isolators; DatasheetVersion: Rev. 1.4; PackageReference: SOIC-16-WB; PackageDescription: 16-Pin Wide Body Plastic Small Outline, Body 10.3 x 7.5 mm, Pitch 1.27 mm; Supplier 1: Digi-Key; Supplier Part Number 1: 336-2117-5-ND; Supplier 2: Mouser; Supplier Part Number 2: 634-SI8660BD-B-IS; AEC-Q100: FALSE; Enable Control: FALSE; Mounting Technology: Surface Mount; Code_JEDEC: MS-013; ComponentLink1Description: Manufacturer URL; ComponentLink1URL: http://www.silabs.com/; ComponentLink2Description: Datasheet; ComponentLink2URL: http://www.silabs.com/Support%20Documents/TechnicalDocs/Si866x.pdf; ComponentLink3Description: Package Specification; ComponentLink3URL: https://www.silabs.com/Support%20Documents/TechnicalDocs/Si823x.pdf
footprint SLAB-SOIC-16-WB_N (SOIC, 16-Leads, Body 10.3x7.5mm, Pitch 1.27mm, IPC Medium Density)
footprint SLAB-SOIC-16-WB_L (SOIC, 16-Leads, Body 10.3x7.5mm, Pitch 1.27mm, IPC High Density)
footprint SLAB-SOIC-16-WB_M (SOIC, 16-Leads, Body 10.3x7.5mm, Pitch 1.27mm, IPC Low Density)
pins: 1 VDD1 (power) "Side 1 power supply.", 2 A1 (in) "Side 1 digital input.", 3 A2 (in) "Side 1 digital input.", 4 A3 (in) "Side 1 digital input.", 5 A4 (in) "Side 1 digital input.", 6 A5 (in) "Side 1 digital input.", 7 A6 (in) "Side 1 digital input.", 8 GND1 (power) "Side 1 ground.", 9 GND2 (power) "Side 2 ground.", 10 B6 (out) "Side 2 digital output.", 11 B5 (out) "Side 2 digital output.", 12 B4 (out) "Side 2 digital output.", 13 B3 (out) "Side 2 digital output.", 14 B2 (out) "Side 2 digital output.", 15 B1 (out) "Side 2 digital output.", 16 VDD2 (power) "Side 2 power supply."

## Si8660EC-B-IS1
designator U?
Low Power Six-Channel Digital Isolator, 150 Mbps, 3.75 kVRMS Isolation Rating, -40 to 125 degC, 16-pin SOIC; Manufacturer: Silicon Labs; PartNumber: Si8660EC-B-IS1; 10kV surge: FALSE; Channel Type: Unidirectional; Isolation Rating (kV): 3.75; Maximum Data Rate (Mbps): 150; Maximum Propagation Delay (ns): 13; Sub-Family: Isolators; DatasheetVersion: Rev. 1.4; PackageReference: SOIC-16-NB; PackageDescription: 16-Pin Small-Outline Integrated Circuit, Body 9.9 x 3.9 mm, Pitch 1.27 mm; Supplier 1: Digi-Key; Supplier Part Number 1: 336-2118-5-ND; Supplier 2: Mouser; Supplier Part Number 2: 634-SI8660EC-B-IS1; AEC-Q100: FALSE; Enable Control: FALSE; Mounting Technology: Surface Mount; Code_JEDEC: MS-012; Code_IPC: J-STD-020; ComponentLink1Description: Manufacturer URL; ComponentLink1URL: http://www.silabs.com/; ComponentLink2Description: Datasheet; ComponentLink2URL: http://www.silabs.com/Support%20Documents/TechnicalDocs/Si866x.pdf; ComponentLink3Description: Package Specification; ComponentLink3URL: http://www.silabs.com/Support%20Documents/TechnicalDocs/si2401.pdf
footprint SLAB-SOIC-16-NB_N (SOIC, 16-Leads, Body 9.9x3.9mm, Pitch 1.27mm, IPC Medium Density)
footprint SLAB-SOIC-16-NB_L (SOIC, 16-Leads, Body 9.9x3.9mm, Pitch 1.27mm, IPC High Density)
footprint SLAB-SOIC-16-NB_M (SOIC, 16-Leads, Body 9.9x3.9mm, Pitch 1.27mm, IPC Low Density)
pins: 1 VDD1 (power) "Side 1 power supply.", 2 A1 (in) "Side 1 digital input.", 3 A2 (in) "Side 1 digital input.", 4 A3 (in) "Side 1 digital input.", 5 A4 (in) "Side 1 digital input.", 6 A5 (in) "Side 1 digital input.", 7 A6 (in) "Side 1 digital input.", 8 GND1 (power) "Side 1 ground.", 9 GND2 (power) "Side 2 ground.", 10 B6 (out) "Side 2 digital output.", 11 B5 (out) "Side 2 digital output.", 12 B4 (out) "Side 2 digital output.", 13 B3 (out) "Side 2 digital output.", 14 B2 (out) "Side 2 digital output.", 15 B1 (out) "Side 2 digital output.", 16 VDD2 (power) "Side 2 power supply."

## Si8660ED-B-IS
designator U?
Low Power Six-Channel Digital Isolator, 150 Mbps, 5 kVRMS Isolation Rating, -40 to 125 degC, 16-pin SOIC; Manufacturer: Silicon Labs; PartNumber: Si8660ED-B-IS; 10kV surge: FALSE; Channel Type: Unidirectional; Isolation Rating (kV): 5; Maximum Data Rate (Mbps): 150; Maximum Propagation Delay (ns): 13; Sub-Family: Isolators; DatasheetVersion: Rev. 1.4; PackageReference: SOIC-16-WB; PackageDescription: 16-Pin Wide Body Plastic Small Outline, Body 10.3 x 7.5 mm, Pitch 1.27 mm; Supplier 1: Digi-Key; Supplier Part Number 1: 336-2119-5-ND; Supplier 2: Mouser; Supplier Part Number 2: 634-SI8660ED-B-IS; AEC-Q100: FALSE; Enable Control: FALSE; Mounting Technology: Surface Mount; Code_JEDEC: MS-013; ComponentLink1Description: Manufacturer URL; ComponentLink1URL: http://www.silabs.com/; ComponentLink2Description: Datasheet; ComponentLink2URL: http://www.silabs.com/Support%20Documents/TechnicalDocs/Si866x.pdf; ComponentLink3Description: Package Specification; ComponentLink3URL: https://www.silabs.com/Support%20Documents/TechnicalDocs/Si823x.pdf
footprint SLAB-SOIC-16-WB_N (SOIC, 16-Leads, Body 10.3x7.5mm, Pitch 1.27mm, IPC Medium Density)
footprint SLAB-SOIC-16-WB_L (SOIC, 16-Leads, Body 10.3x7.5mm, Pitch 1.27mm, IPC High Density)
footprint SLAB-SOIC-16-WB_M (SOIC, 16-Leads, Body 10.3x7.5mm, Pitch 1.27mm, IPC Low Density)
pins: 1 VDD1 (power) "Side 1 power supply.", 2 A1 (in) "Side 1 digital input.", 3 A2 (in) "Side 1 digital input.", 4 A3 (in) "Side 1 digital input.", 5 A4 (in) "Side 1 digital input.", 6 A5 (in) "Side 1 digital input.", 7 A6 (in) "Side 1 digital input.", 8 GND1 (power) "Side 1 ground.", 9 GND2 (power) "Side 2 ground.", 10 B6 (out) "Side 2 digital output.", 11 B5 (out) "Side 2 digital output.", 12 B4 (out) "Side 2 digital output.", 13 B3 (out) "Side 2 digital output.", 14 B2 (out) "Side 2 digital output.", 15 B1 (out) "Side 2 digital output.", 16 VDD2 (power) "Side 2 power supply."

## Si8661BC-B-IS1
designator U?
Low Power Six-Channel Digital Isolator, 150 Mbps, 3.75 kVRMS Isolation Rating, -40 to 125 degC, 16-pin SOIC; Manufacturer: Silicon Labs; PartNumber: Si8661BC-B-IS1; 10kV surge: FALSE; Channel Type: Unidirectional; Isolation Rating (kV): 3.75; Maximum Data Rate (Mbps): 150; Maximum Propagation Delay (ns): 13; Sub-Family: Isolators; DatasheetVersion: Rev. 1.4; PackageReference: SOIC-16-NB; PackageDescription: 16-Pin Small-Outline Integrated Circuit, Body 9.9 x 3.9 mm, Pitch 1.27 mm; Supplier 1: Digi-Key; Supplier Part Number 1: 336-2120-5-ND; Supplier 2: Mouser; Supplier Part Number 2: 634-SI8661BC-B-IS1; AEC-Q100: FALSE; Enable Control: FALSE; Mounting Technology: Surface Mount; Code_JEDEC: MS-012; Code_IPC: J-STD-020; ComponentLink1Description: Manufacturer URL; ComponentLink1URL: http://www.silabs.com/; ComponentLink2Description: Datasheet; ComponentLink2URL: http://www.silabs.com/Support%20Documents/TechnicalDocs/Si866x.pdf; ComponentLink3Description: Package Specification; ComponentLink3URL: http://www.silabs.com/Support%20Documents/TechnicalDocs/si2401.pdf
footprint SLAB-SOIC-16-NB_N (SOIC, 16-Leads, Body 9.9x3.9mm, Pitch 1.27mm, IPC Medium Density)
footprint SLAB-SOIC-16-NB_L (SOIC, 16-Leads, Body 9.9x3.9mm, Pitch 1.27mm, IPC High Density)
footprint SLAB-SOIC-16-NB_M (SOIC, 16-Leads, Body 9.9x3.9mm, Pitch 1.27mm, IPC Low Density)
pins: 1 VDD1 (power) "Side 1 power supply.", 2 A1 (in) "Side 1 digital input.", 3 A2 (in) "Side 1 digital input.", 4 A3 (in) "Side 1 digital input.", 5 A4 (in) "Side 1 digital input.", 6 A5 (in) "Side 1 digital input.", 7 A6 (out) "Side 1 digital output.", 8 GND1 (power) "Side 1 ground.", 9 GND2 (power) "Side 2 ground.", 10 B6 (in) "Side 2 digital input.", 11 B5 (out) "Side 2 digital output.", 12 B4 (out) "Side 2 digital output.", 13 B3 (out) "Side 2 digital output.", 14 B2 (out) "Side 2 digital output.", 15 B1 (out) "Side 2 digital output.", 16 VDD2 (power) "Side 2 power supply."

## Si8661BD-B-IS
designator U?
Low Power Six-Channel Digital Isolator, 150 Mbps, 5 kVRMS Isolation Rating, -40 to 125 degC, 16-pin SOIC; Manufacturer: Silicon Labs; PartNumber: Si8661BD-B-IS; 10kV surge: FALSE; Channel Type: Unidirectional; Isolation Rating (kV): 5; Maximum Data Rate (Mbps): 150; Maximum Propagation Delay (ns): 13; Sub-Family: Isolators; DatasheetVersion: Rev. 1.4; PackageReference: SOIC-16-WB; PackageDescription: 16-Pin Wide Body Plastic Small Outline, Body 10.3 x 7.5 mm, Pitch 1.27 mm; Supplier 1: Digi-Key; Supplier Part Number 1: 336-2121-5-ND; Supplier 2: Mouser; Supplier Part Number 2: 634-SI8661BD-B-IS; AEC-Q100: FALSE; Enable Control: FALSE; Mounting Technology: Surface Mount; Code_JEDEC: MS-013; ComponentLink1Description: Manufacturer URL; ComponentLink1URL: http://www.silabs.com/; ComponentLink2Description: Datasheet; ComponentLink2URL: http://www.silabs.com/Support%20Documents/TechnicalDocs/Si866x.pdf; ComponentLink3Description: Package Specification; ComponentLink3URL: https://www.silabs.com/Support%20Documents/TechnicalDocs/Si823x.pdf
footprint SLAB-SOIC-16-WB_N (SOIC, 16-Leads, Body 10.3x7.5mm, Pitch 1.27mm, IPC Medium Density)
footprint SLAB-SOIC-16-WB_L (SOIC, 16-Leads, Body 10.3x7.5mm, Pitch 1.27mm, IPC High Density)
footprint SLAB-SOIC-16-WB_M (SOIC, 16-Leads, Body 10.3x7.5mm, Pitch 1.27mm, IPC Low Density)
pins: 1 VDD1 (power) "Side 1 power supply.", 2 A1 (in) "Side 1 digital input.", 3 A2 (in) "Side 1 digital input.", 4 A3 (in) "Side 1 digital input.", 5 A4 (in) "Side 1 digital input.", 6 A5 (in) "Side 1 digital input.", 7 A6 (out) "Side 1 digital output.", 8 GND1 (power) "Side 1 ground.", 9 GND2 (power) "Side 2 ground.", 10 B6 (in) "Side 2 digital input.", 11 B5 (out) "Side 2 digital output.", 12 B4 (out) "Side 2 digital output.", 13 B3 (out) "Side 2 digital output.", 14 B2 (out) "Side 2 digital output.", 15 B1 (out) "Side 2 digital output.", 16 VDD2 (power) "Side 2 power supply."

## Si8661EC-B-IS1
designator U?
Low Power Six-Channel Digital Isolator, 150 Mbps, 3.75 kVRMS Isolation Rating, -40 to 125 degC, 16-pin SOIC; Manufacturer: Silicon Labs; PartNumber: Si8661EC-B-IS1; 10kV surge: FALSE; Channel Type: Unidirectional; Isolation Rating (kV): 3.75; Maximum Data Rate (Mbps): 150; Maximum Propagation Delay (ns): 13; Sub-Family: Isolators; DatasheetVersion: Rev. 1.4; PackageReference: SOIC-16-NB; PackageDescription: 16-Pin Small-Outline Integrated Circuit, Body 9.9 x 3.9 mm, Pitch 1.27 mm; Supplier 1: Digi-Key; Supplier Part Number 1: 336-2122-5-ND; Supplier 2: Mouser; Supplier Part Number 2: 634-SI8661EC-B-IS1; AEC-Q100: FALSE; Enable Control: FALSE; Mounting Technology: Surface Mount; Code_JEDEC: MS-012; Code_IPC: J-STD-020; ComponentLink1Description: Manufacturer URL; ComponentLink1URL: http://www.silabs.com/; ComponentLink2Description: Datasheet; ComponentLink2URL: http://www.silabs.com/Support%20Documents/TechnicalDocs/Si866x.pdf; ComponentLink3Description: Package Specification; ComponentLink3URL: http://www.silabs.com/Support%20Documents/TechnicalDocs/si2401.pdf
footprint SLAB-SOIC-16-NB_N (SOIC, 16-Leads, Body 9.9x3.9mm, Pitch 1.27mm, IPC Medium Density)
footprint SLAB-SOIC-16-NB_L (SOIC, 16-Leads, Body 9.9x3.9mm, Pitch 1.27mm, IPC High Density)
footprint SLAB-SOIC-16-NB_M (SOIC, 16-Leads, Body 9.9x3.9mm, Pitch 1.27mm, IPC Low Density)
pins: 1 VDD1 (power) "Side 1 power supply.", 2 A1 (in) "Side 1 digital input.", 3 A2 (in) "Side 1 digital input.", 4 A3 (in) "Side 1 digital input.", 5 A4 (in) "Side 1 digital input.", 6 A5 (in) "Side 1 digital input.", 7 A6 (out) "Side 1 digital output.", 8 GND1 (power) "Side 1 ground.", 9 GND2 (power) "Side 2 ground.", 10 B6 (in) "Side 2 digital input.", 11 B5 (out) "Side 2 digital output.", 12 B4 (out) "Side 2 digital output.", 13 B3 (out) "Side 2 digital output.", 14 B2 (out) "Side 2 digital output.", 15 B1 (out) "Side 2 digital output.", 16 VDD2 (power) "Side 2 power supply."

## Si8661ED-B-IS
designator U?
Low Power Six-Channel Digital Isolator, 150 Mbps, 5 kVRMS Isolation Rating, -40 to 125 degC, 16-pin SOIC; Manufacturer: Silicon Labs; PartNumber: Si8661ED-B-IS; 10kV surge: FALSE; Channel Type: Unidirectional; Isolation Rating (kV): 5; Maximum Data Rate (Mbps): 150; Maximum Propagation Delay (ns): 13; Sub-Family: Isolators; DatasheetVersion: Rev. 1.4; PackageReference: SOIC-16-WB; PackageDescription: 16-Pin Wide Body Plastic Small Outline, Body 10.3 x 7.5 mm, Pitch 1.27 mm; Supplier 1: Digi-Key; Supplier Part Number 1: 336-2123-5-ND; Supplier 2: Mouser; Supplier Part Number 2: 634-SI8661ED-B-IS; AEC-Q100: FALSE; Enable Control: FALSE; Mounting Technology: Surface Mount; Code_JEDEC: MS-013; ComponentLink1Description: Manufacturer URL; ComponentLink1URL: http://www.silabs.com/; ComponentLink2Description: Datasheet; ComponentLink2URL: http://www.silabs.com/Support%20Documents/TechnicalDocs/Si866x.pdf; ComponentLink3Description: Package Specification; ComponentLink3URL: https://www.silabs.com/Support%20Documents/TechnicalDocs/Si823x.pdf
footprint SLAB-SOIC-16-WB_N (SOIC, 16-Leads, Body 10.3x7.5mm, Pitch 1.27mm, IPC Medium Density)
footprint SLAB-SOIC-16-WB_L (SOIC, 16-Leads, Body 10.3x7.5mm, Pitch 1.27mm, IPC High Density)
footprint SLAB-SOIC-16-WB_M (SOIC, 16-Leads, Body 10.3x7.5mm, Pitch 1.27mm, IPC Low Density)
pins: 1 VDD1 (power) "Side 1 power supply.", 2 A1 (in) "Side 1 digital input.", 3 A2 (in) "Side 1 digital input.", 4 A3 (in) "Side 1 digital input.", 5 A4 (in) "Side 1 digital input.", 6 A5 (in) "Side 1 digital input.", 7 A6 (out) "Side 1 digital output.", 8 GND1 (power) "Side 1 ground.", 9 GND2 (power) "Side 2 ground.", 10 B6 (in) "Side 2 digital input.", 11 B5 (out) "Side 2 digital output.", 12 B4 (out) "Side 2 digital output.", 13 B3 (out) "Side 2 digital output.", 14 B2 (out) "Side 2 digital output.", 15 B1 (out) "Side 2 digital output.", 16 VDD2 (power) "Side 2 power supply."